# EAGLE library part M68AF127B (library sasaji_parts)
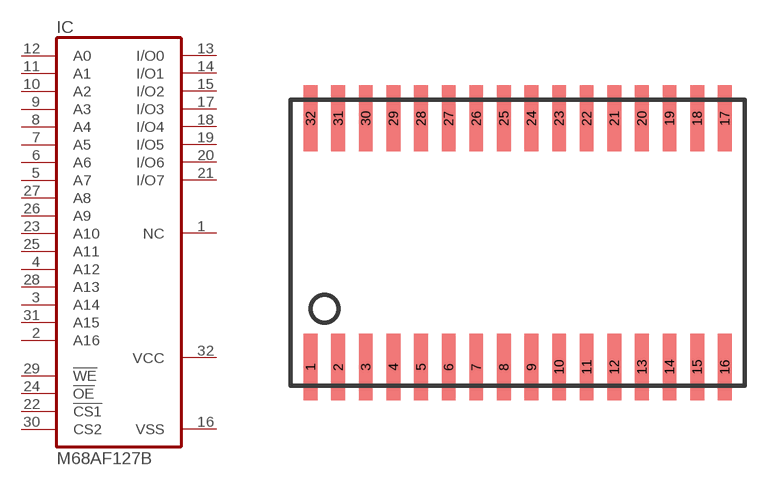
[diagram p1: symbol with the pads of SOJ32-400; footprint SOJ32-400]

Designator prefix IC

## M68AF127B  [SOJ32-400]
1  NC  nc
2  A16  in
3  A14  in
4  A12  in
5  A7  in
6  A6  in
7  A5  in
8  A4  in
9  A3  in
10  A2  in
11  A1  in
12  A0  in
13  I/O0
14  I/O1
15  I/O2
16  VSS  pwr
17  I/O3
18  I/O4
19  I/O5
20  I/O6
21  I/O7
22  !CS1  in
23  A10  in
24  !OE  in
25  A11  in
26  A9  in
27  A8  in
28  A13  in
29  !WE  in
30  CS2  in
31  A15  in
32  VCC  pwr

## Footprint SOJ32-400 (pad centres in mm)
32-pin (400-Mil) Molded SOJ (51-85033) Source:
smd 0.635 x 3.048: 1 -9.525,-5.715; 2 -8.255,-5.715; 3 -6.985,-5.715; 4 -5.715,-5.715; 5 -4.445,-5.715; 6 -3.175,-5.715; 7 -1.905,-5.715; 8 -0.635,-5.715; 9 0.635,-5.715; 10 1.905,-5.715; 11 3.175,-5.715; 12 4.445,-5.715; 13 5.715,-5.715; 14 6.985,-5.715; 15 8.255,-5.715; 16 9.525,-5.715; 17 9.525,5.715; 18 8.255,5.715; 19 6.985,5.715; 20 5.715,5.715; 21 4.445,5.715; 22 3.175,5.715; 23 1.905,5.715; 24 0.635,5.715; 25 -0.635,5.715; 26 -1.905,5.715; 27 -3.175,5.715; 28 -4.445,5.715; 29 -5.715,5.715; 30 -6.985,5.715; 31 -8.255,5.715; 32 -9.525,5.715